# Altium integrated library CL10B104KA8VPJC.IntLib: 1 symbol
Pins are listed as number, name and electrical type; pins without a type are passive.

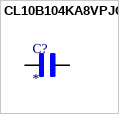
[diagram p0: symbol CL10B104KA8VPJC]

## CL10B104KA8VPJC
designator C?
Multilayer Ceramic Capacitors MLCC - SMD/SMT; MF: Samsung Electro-Mechanics; MP: CL10B104KA8VPJC; SnapEDA_Link: https://www.snapeda.com/parts/CL10B104KA8VPJC/Samsung/view-part/?ref=snap; Package: SMD-2 Samsung; Value: *; Check_prices: https://www.snapeda.com/parts/CL10B104KA8VPJC/Samsung/view-part/?ref=eda
footprint CAPC1608X90N
pins: 1, 2